# Altium schematic symbol library MCP2518FDT-H_SL.SchLib: 1 symbol
Pins are listed as number, name and electrical type; pins without a type are passive.

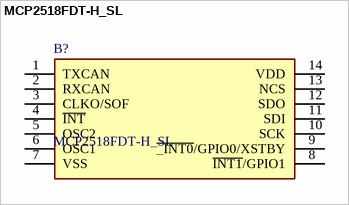
[diagram p0: symbol MCP2518FDT-H_SL]

## MCP2518FDT-H_SL
designator B?
CAN Interface IC Stand-alone Low Power CAN FD Controller w/SPI Interface Grade0; Manufacturer_Name: Microchip; Manufacturer_Part_Number: MCP2518FDT-H/SL; Geometry.Height: 1.75mm; Mouser Part Number: 579-MCP2518FDT-H/SL; Mouser Price/Stock: https://www.mouser.co.uk/ProductDetail/Microchip-Technology/MCP2518FDT-H-SL?qs=T3oQrply3y91PFfynJbKYg%3D%3D; Datasheet Link: https://datasheet.datasheetarchive.com/originals/distributors/Datasheets_SAMA/744760637e861ab0ee43f380fa65a694.pdf
footprint SOIC127P600X175-14N
pins: 1 TXCAN, 2 RXCAN, 3 CLKO/SOF, 4 ~{INT}, 5 OSC2, 6 OSC1, 7 VSS, 8 ~{INT1}/GPIO1, 9 ~{_INT0}/GPIO0/XSTBY, 10 SCK, 11 SDI, 12 SDO, 13 NCS, 14 VDD